# EAGLE library part FE06-1 (library Mine)
FEMALE HEADER
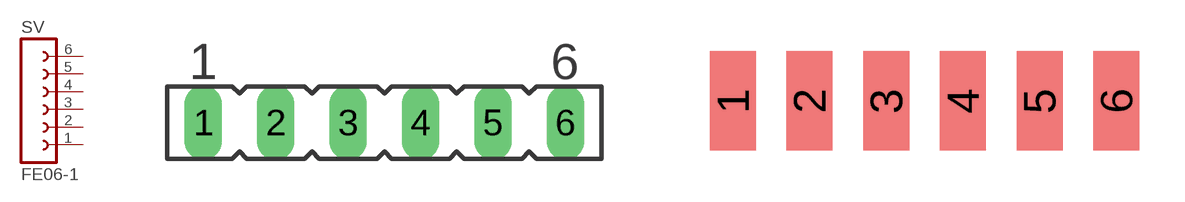
[diagram p31: symbol with the pads of FE06; footprints FE06, EDGE_6]

Designator prefix SV

## FE06-1 (OC_FARNELL: unknown; OC_NEWARK: unknown)  [FE06]
1  1  pas
2  2  pas
3  3  pas
4  4  pas
5  5  pas
6  6  pas

## FE06-1ED  [EDGE_6]
Pads as for FE06

## Footprint FE06 (pad centres in mm)
FEMALE HEADER
drill 0.813 long: 1 -6.35,0; 2 -3.81,0; 3 -1.27,0; 4 1.27,0; 5 3.81,0; 6 6.35,0

## Footprint EDGE_6 (pad centres in mm)
smd 1.524 x 3.302: 1 -5.08,-1.778; 2 -2.54,-1.778; 3 0,-1.778; 4 2.54,-1.778; 5 5.08,-1.778; 6 7.62,-1.778